# EAGLE library part HD-A542D (library LED displeje)
LED displej 14,2 mm 2 mist
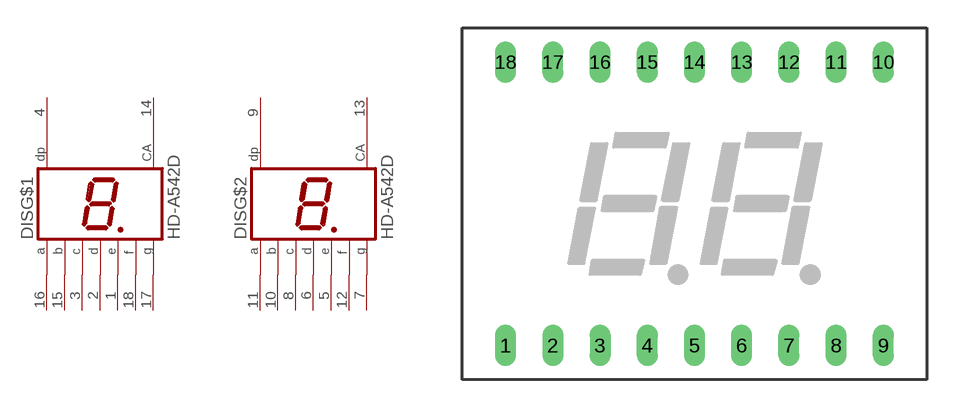
[diagram p23: symbol with the pads of HD-A54X; footprint HD-A54X]

Designator prefix DIS; gates G$1=HD7-1A G$2=HD7-1A

## HD-A542D  [HD-A54X]
1  G$1:E  pas
2  G$1:D  pas
3  G$1:C  pas
4  G$1:DP  pas
5  G$2:E  pas
6  G$2:D  pas
7  G$2:G  pas
8  G$2:C  pas
9  G$2:DP  pas
10  G$2:B  pas
11  G$2:A  pas
12  G$2:F  pas
13  G$2:CA  pas
14  G$1:CA  pas
15  G$1:B  pas
16  G$1:A  pas
17  G$1:G  pas
18  G$1:F  pas

## Footprint HD-A54X (pad centres in mm)
drill 0.61 long: 1 -10.16,-7.62; 2 -7.62,-7.62; 3 -5.08,-7.62; 4 -2.54,-7.62; 5 0,-7.62; 6 2.54,-7.62; 7 5.08,-7.62; 8 7.62,-7.62; 9 10.16,-7.62; 10 10.16,7.62; 11 7.62,7.62; 12 5.08,7.62; 13 2.54,7.62; 14 0,7.62; 15 -2.54,7.62; 16 -5.08,7.62; 17 -7.62,7.62; 18 -10.16,7.62